# Altium schematic symbol library TestPoints.SchLib: 1 symbol
Pins are listed as number, name and electrical type; pins without a type are passive.

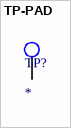
[diagram p0: symbol TP-PAD]

## TP-PAD
designator TP?
footprint TP-PAD
pins: 1